# Altium schematic symbol library AMPLA7050S-100MT.SchLib: 1 symbol
Pins are listed as number, name and electrical type; pins without a type are passive.

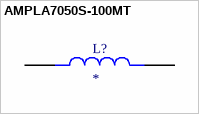
[diagram p0: symbol AMPLA7050S-100MT]

## AMPLA7050S-100MT
designator L?
MF: {'manufacturer': u'Abracon Corporation'}; MP: AMPLA7050S-100MT; Package: None; Price: None; Availability: Unavailable; Value: *
footprint IND_AMPLA7050S-100MT
pins: 1, 2